# Altium schematic symbol library Graphical Shematic Symbol.SchLib: 32 symbols
Pins are listed as number, name and electrical type; pins without a type are passive.

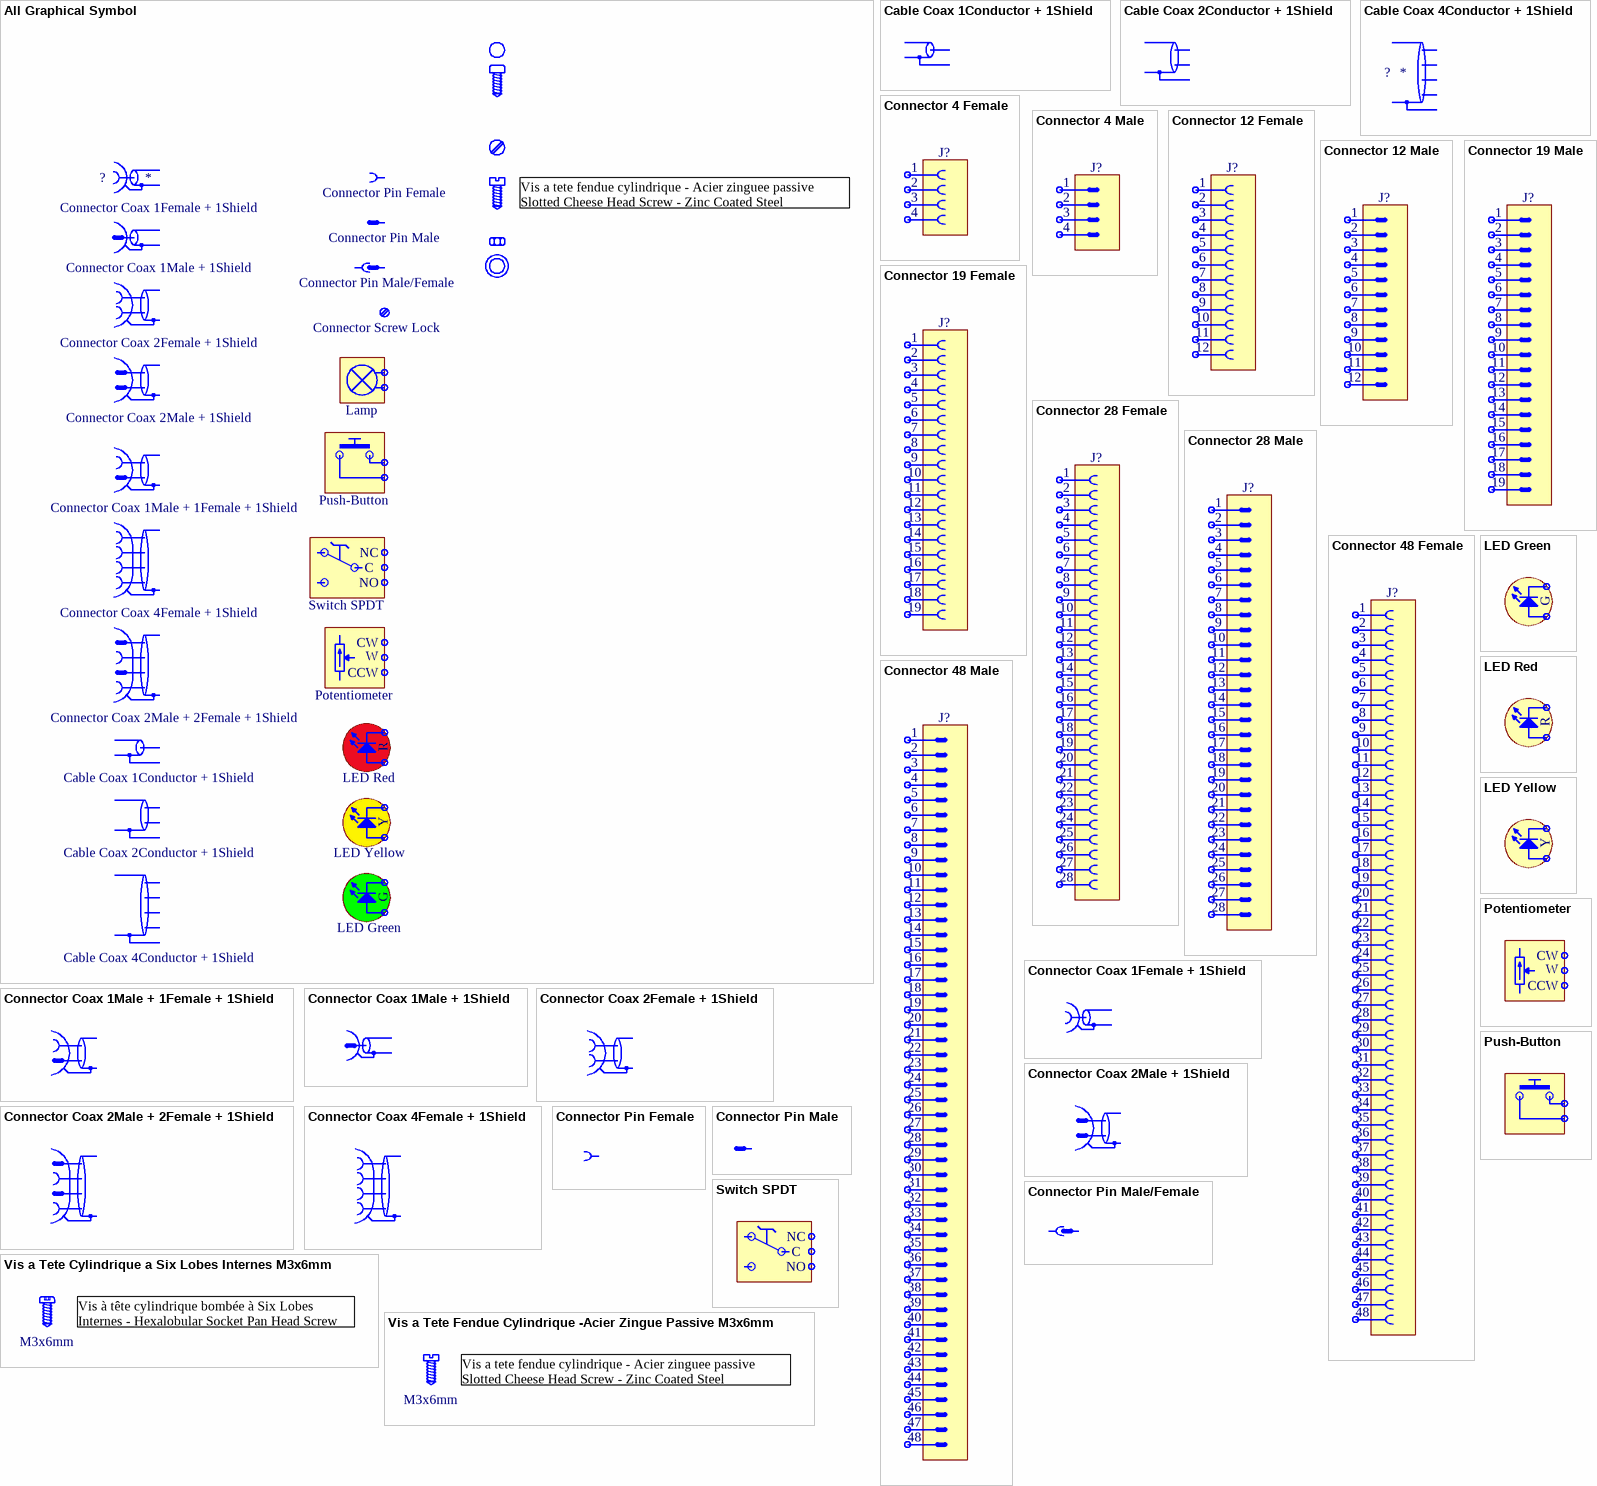
[diagram p0: symbols All Graphical Symbol to Vis a Tete Fendue Cylindrique -Acier Zingue Passive M3x6mm]

## All Graphical Symbol
designator ?  (graphical)
All Graphical Symbol
text: Connector Pin Female; Connector Coax 1Female + 1Shield; Vis a tete fendue cylindrique - Acier zinguee passive / Slotted Cheese Head Screw - Zinc Coated Steel PASSIVATED; Connector Pin Male; Connector Coax 1Male + 1Shield; Connector Pin Male/Female; Connector Screw Lock; Connector Coax 2Female + 1Shield; Lamp; Connector Coax 2Male + 1Shield; Push-Button; Connector Coax 1Male + 1Female + 1Shield; NC; C; NO; Switch SPDT; Connector Coax 4Female + 1Shield; CW; W; CCW; Potentiometer; Connector Coax 2Male + 2Female + 1Shield; R; Cable Coax 1Conductor + 1Shield; LED Red; Y; Cable Coax 2Conductor + 1Shield; LED Yellow; G; LED Green; Cable Coax 4Conductor + 1Shield

## Cable Coax 1Conductor + 1Shield
designator ?  (value not drawn)  (graphical)
Cable Coax 1Conductor + 1Shield

## Cable Coax 2Conductor + 1Shield
designator ?  (value not drawn)  (graphical)
Cable Coax 2Conductor + 1Shield

## Cable Coax 4Conductor + 1Shield
designator ?  (graphical)
Cable Coax 4Conductor + 1Shield

## Connector 4 Female
designator J?  (graphical)
Connector 4 Female
1 alternate drawing of the same symbol

## Connector 4 Male
designator J?  (graphical)
Connector 4 Male
1 alternate drawing of the same symbol

## Connector 12 Female
designator J?  (graphical)
Connector 12 Female
1 alternate drawing of the same symbol

## Connector 12 Male
designator J?
Connector 12 Male
1 alternate drawing of the same symbol

## Connector 19 Female
designator J?  (graphical)
Connector 19 Female
1 alternate drawing of the same symbol

## Connector 19 Male
designator J?  (graphical)
Connector 19 Male
1 alternate drawing of the same symbol

## Connector 28 Female
designator J?  (graphical)
Connector 28 Female
1 alternate drawing of the same symbol

## Connector 28 Male
designator J?  (graphical)
Connector 28 Male
1 alternate drawing of the same symbol

## Connector 48 Female
designator J?  (graphical)
Connector 48 Female
1 alternate drawing of the same symbol
text: 29; 30; 31; 32; 33; 34; 35; 36; 37; 38; 39; 40; 41; 42; 43; 44; 45; 46; 47; 48

## Connector 48 Male
designator J?  (graphical)
Connector 48 Male
1 alternate drawing of the same symbol
text: 29; 30; 31; 32; 33; 34; 35; 36; 37; 38; 39; 40; 41; 42; 43; 44; 45; 46; 47; 48

## Connector Coax 1Female + 1Shield
designator ?  (value not drawn)  (graphical)
Connector Coax 1Female + 1Shield

## Connector Coax 1Male + 1Female + 1Shield
designator ?  (value not drawn)  (graphical)
Connector Coax 1Male + 1Female + 1Shield

## Connector Coax 1Male + 1Shield
designator ?  (value not drawn)  (graphical)
Coaxial Connecteur 1 Conductor + 1 Shield

## Connector Coax 2Female + 1Shield
designator ?  (value not drawn)  (graphical)
Connector Coax 2Female + 1Shield

## Connector Coax 2Male + 1Shield
designator ?  (value not drawn)  (graphical)
Connector Coax 2Male + 1Shield

## Connector Coax 2Male + 2Female + 1Shield
designator ?  (value not drawn)  (graphical)
Connector Coax 2Male + 2Female + 1Shield

## Connector Coax 4Female + 1Shield
designator ?  (value not drawn)  (graphical)
Connector Coax 4Female + 1Shield

## Connector Pin Female
designator ?  (value not drawn)  (graphical)
Connector Pin Female

## Connector Pin Male
designator ?  (value not drawn)  (graphical)
Connector Pin Male

## Connector Pin Male/Female
designator ?  (value not drawn)  (graphical)
Connector Pin Male/Female

## LED Green
designator ?  (value not drawn)  (graphical)
LED Green
text: G

## LED Red
designator ?  (value not drawn)  (graphical)
LED Red
text: R

## LED Yellow
designator ?  (value not drawn)  (graphical)
LED Yellow
text: Y

## Potentiometer
designator ?  (value not drawn)  (graphical)
Trimming Potentiometer
text: CW; W; CCW

## Push-Button
designator ?  (value not drawn)  (graphical)
Push-Button

## Switch SPDT
designator ?  (value not drawn)  (graphical)
Switch SPDT
text: NC; C; NO

## Vis a Tete Cylindrique a Six Lobes Internes M3x6mm
designator ?  (value not drawn)  (mechanical)
Vis a Tete Cylindrique a Six Lobes Internes
text: Vis à tête cylindrique bombée à Six Lobes Internes - Hexalobular Socket Pan Head Screw; M3x6mm

## Vis a Tete Fendue Cylindrique -Acier Zingue Passive M3x6mm
designator ?  (value not drawn)  (mechanical)
Vis a Tete Fendue Cylindrique -Acier Zingue M3x6mm
text: Vis a tete fendue cylindrique - Acier zinguee passive / Slotted Cheese Head Screw - Zinc Coated Steel PASSIVATED; M3x6mm